# Altium footprint library 传感器.PcbLib: 3 footprints
Each footprint in its own frame and in the unit in brackets; x right, y up, seen from the top. Pads: shape width x height; smd on the part's side, far side on the other; paste and mask are expansions set on the pad; w line width, h text height; cw(c..) or ccw(c..) is an arc to the next point about the centre after c.
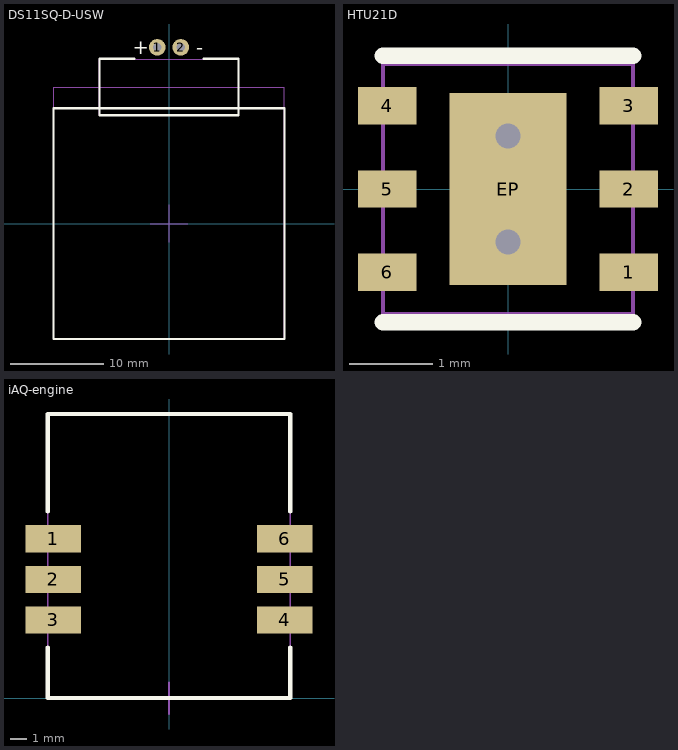
[diagram p0: the footprints below, top view; thin cyan lines are the x and y axes]

## DS11SQ-D-USW [mm] "甲醛传感器 Dart Sensors co.,ltd"
pads (2):
  round 1.8 hole 0.9: 1(-1.27,19) 2(1.27,19)
Top Overlay:
  lines w0.254: -12.453,12.446 12.446,12.446 ; -12.45,-12.45 12.45,-12.45 12.45,12.45 ; -12.45,-12.446 -12.45,12.45 ; -3.746,17.78 -7.493,17.78 -7.493,11.684 7.493,11.684 7.493,17.78 3.746,17.78
  text "+" at -3.937,18.256 h1.52
  text "-" at 2.921,18.256 h1.52
Mechanical 1:
  lines w0.1: -7.5,11.7 -7.5,17.7 7.5,17.7 7.5,11.7 -7.5,11.7
Mechanical 13:
  lines w0.1: -12.45,-12.45 -12.45,14.7 12.45,14.7 12.45,-12.45 -12.45,-12.45
Mechanical 15:
  lines w0.1: -2,0 2,0 ; 0,-2 0,2
3D body: height 5.81, standoff -3.4, extent -12.45,-12.45 12.45,14.7

## HTU21D [mm] "温度传感器"
height 0.9
pads (7):
  rect 0.7x0.45 smd: 1(1.45,-1) 2(1.45,0) 3(1.45,1) 4(-1.45,1) 5(-1.45,0) 6(-1.45,-1)
  rect 1.4x2.3 smd: EP(0,0)
via 0,0.635 diameter 0.5 hole 0.3
via 0,-0.635 diameter 0.5 hole 0.3
Top Overlay:
  lines w0.2: -1.5,-1.6 1.5,-1.6 ; -1.5,1.6 1.5,1.6
Mechanical 13:
  lines w0.05: -1.5,-1.5 1.5,-1.5 1.5,1.5 -1.5,1.5 -1.5,-1.5
Mechanical 15:
  lines w0.1: -0.5,0 0.5,0 ; 0,-0.5 0,0.5
3D body: height 0.91, standoff 0.01, extent -1.5,-1.5 1.5,1.5

## iAQ-engine [mm] "室内空气质量传感器模块"
height 4
pads (6):
  rect 3.5x1.7 smd: 1(-7.25,9.98) 2(-7.25,7.44) 3(-7.25,4.9) 4(7.25,4.9) 5(7.25,7.44) 6(7.25,9.98)
Top Overlay:
  lines w0.254: -7.6,3.175 -7.6,0 7.6,0 7.6,3.175 ; -7.6,11.684 -7.6,17.8 7.6,17.8 7.6,11.684
Mechanical 13:
  lines w0.1: -7.605,0 -7.605,17.8 7.605,17.8 7.605,0 -7.605,0
Mechanical 15:
  lines w0.1: -1.016,0 1,0 ; 0,-1 0,1
3D body: height 4.11, standoff 0, extent -7.605,0 7.605,17.8